# Altium schematic symbol library MCU.SchLib: 2 symbols
Pins are listed as number, name and electrical type; pins without a type are passive.

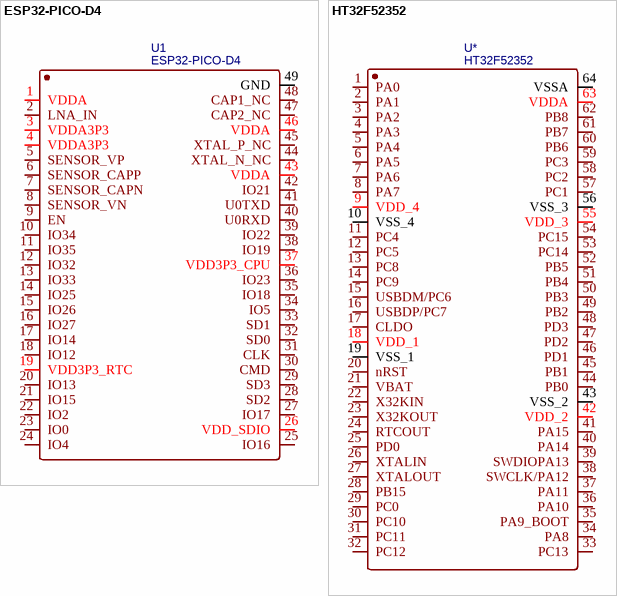
[diagram p0: symbols ESP32-PICO-D4 to HT32F52352]

## ESP32-PICO-D4
designator U1
BOM_Manufacturer: Espressif Systems; Contributor: LCSC; BOM_Supplier: LCSC; BOM_Supplier Part: C193707; BOM_Manufacturer Part: ESP32-PICO-D4; BOM_JLCPCB Part Class: Extended Part; Frequency: -; spicePre: U; spiceSymbolName: ESP32-PICO-D4
footprint QFN48 7X7_N (48脚，长x宽x高：7x7x1mm，脚距：0.5mm)
pins: 1 VDDA, 2 LNA_IN, 3 VDDA3P3, 4 VDDA3P3, 5 SENSOR_VP, 6 SENSOR_CAPP, 7 SENSOR_CAPN, 8 SENSOR_VN, 9 EN, 10 IO34, 11 IO35, 12 IO32, 13 IO33, 14 IO25, 15 IO26, 16 IO27, 17 IO14, 18 IO12, 19 VDD3P3_RTC, 20 IO13, 21 IO15, 22 IO2, 23 IO0, 24 IO4, 25 IO16, 26 VDD_SDIO, 27 IO17, 28 SD2, 29 SD3, 30 CMD, 31 CLK, 32 SD0, 33 SD1, 34 IO5, 35 IO18, 36 IO23, 37 VDD3P3_CPU, 38 IO19, 39 IO22, 40 U0RXD, 41 U0TXD, 42 IO21, 43 VDDA, 44 XTAL_N_NC, 45 XTAL_P_NC, 46 VDDA, 47 CAP2_NC, 48 CAP1_NC, 49 GND

## HT32F52352
designator U*
BOM_Manufacturer: HOLTEK; BOM_Supplier: LCSC; BOM_Manufacturer Part: HT32F52352; BOM_Supplier Part: C97188; BOM_JLCPCB Part Class: Extended Part; spicePre: U; spiceSymbolName: HT32F52352
footprint LQFP64 7x7_M (64脚，体宽：7x7mm, 脚距：0.4mm)
pins: 1 PA0, 2 PA1, 3 PA2, 4 PA3, 5 PA4, 6 PA5, 7 PA6, 8 PA7, 9 VDD_4, 10 VSS_4, 11 PC4, 12 PC5, 13 PC8, 14 PC9, 15 USBDM/PC6, 16 USBDP/PC7, 17 CLDO, 18 VDD_1, 19 VSS_1, 20 nRST, 21 VBAT, 22 X32KIN, 23 X32KOUT, 24 RTCOUT, 25 PD0, 26 XTALIN, 27 XTALOUT, 28 PB15, 29 PC0, 30 PC10, 31 PC11, 32 PC12, 33 PC13, 34 PA8, 35 PA9_BOOT, 36 PA10, 37 PA11, 38 SWCLK/PA12, 39 SWDIOPA13, 40 PA14, 41 PA15, 42 VDD_2, 43 VSS_2, 44 PB0, 45 PB1, 46 PD1, 47 PD2, 48 PD3, 49 PB2, 50 PB3, 51 PB4, 52 PB5, 53 PC14, 54 PC15, 55 VDD_3, 56 VSS_3, 57 PC1, 58 PC2, 59 PC3, 60 PB6, 61 PB7, 62 PB8, 63 VDDA, 64 VSSA